# Altium footprint library SOTFL3P40_120X120X55L30X32N.PcbLib: 1 footprints
Each footprint in its own frame and in the unit in brackets; x right, y up, seen from the top. Pads: shape width x height; smd on the part's side, far side on the other; paste and mask are expansions set on the pad; w line width, h text height; cw(c..) or ccw(c..) is an arc to the next point about the centre after c.
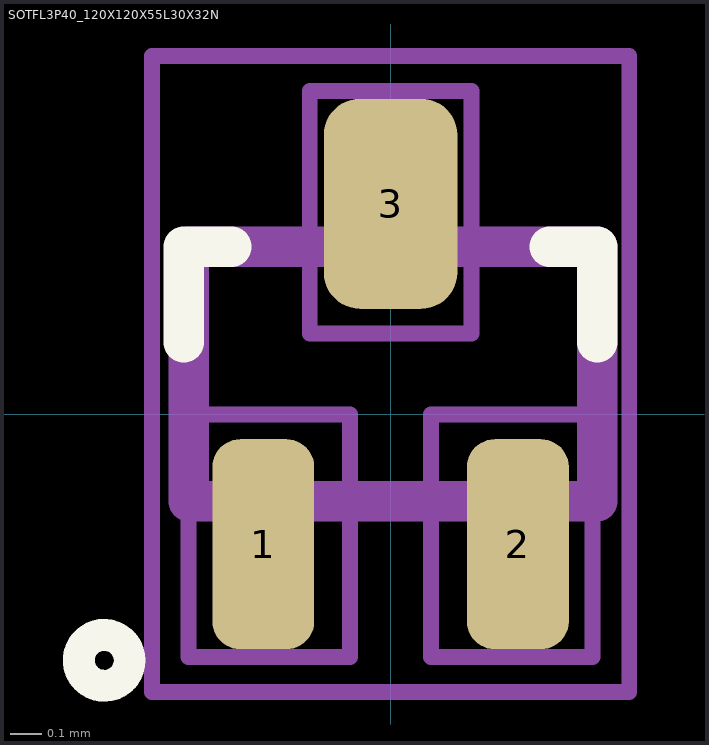
[diagram p0: the footprint, top view; thin cyan lines are the x and y axes]

## SOTFL3P40_120X120X55L30X32N [mm]
pads (3):
  rrect54% 0.32x0.66 smd: 1(-0.4,-0.408) 2(0.4,-0.408)
  rrect54% 0.42x0.66 smd: 3(0,0.662)
Top Overlay:
  circle w0.1: c-0.9,-0.773 r0.08
  lines w0.127: -0.65,0.227 -0.65,0.527 -0.5,0.527 ; 0.5,0.527 0.65,0.527 0.65,0.227
Mechanical 3:
  lines w0.127: -0.635,-0.273 -0.635,0.527 0.65,0.527 0.65,-0.273 -0.635,-0.273
Mechanical 5:
  lines w0.05: -0.635,-0.762 -0.635,0 -0.127,0 -0.127,-0.762 -0.635,-0.762 ; -0.254,0.254 -0.254,1.016 0.254,1.016 0.254,0.254 -0.254,0.254 ; 0.127,-0.762 0.127,0 0.635,0 0.635,-0.762 0.127,-0.762
Mechanical 7:
  lines w0.05: -0.75,-0.873 -0.75,1.127 0.75,1.127 0.75,-0.873 -0.75,-0.873
Mechanical 9:
  text "'.Designator'" at -5.048,-0.059 h1.02
3D body "RZM001P02T2L.STEP": height 0.56, standoff 0, extent -0.6,-0.538 0.6,0.662
3D body: height 0.56, standoff 0, extent -0.75,-0.873 0.75,1.127